# Altium integrated library 1000uf.IntLib: 1 symbol
Pins are listed as number, name and electrical type; pins without a type are passive.

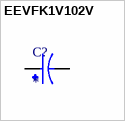
[diagram p0: symbol EEVFK1V102V]

## EEVFK1V102V
designator C?
1000ÂµF 35V Aluminum Electrolytic Capacitors Radial, Can - SMD 5000 Hrs @ 105Â°C; MP: EEV-FK1V102V; MF: Panasonic; Purchase-URL: https://pricing.snapeda.com/search/part/EEV-FK1V102V/?ref=eda; Price: None; SnapEDA_Link: https://www.snapeda.com/parts/EEV-FK1V102V/Panasonic/view-part/?ref=snap; Check_prices: https://www.snapeda.com/parts/EEV-FK1V102V/Panasonic/view-part/?ref=eda; Package: RADIAL-2 Panasonic; Availability: In Stock; Value: *
footprint CAP_EEVFK1V102V
pins: 1, 2